# Altium footprint library GMRsensor.PcbLib: 2 footprints
Each footprint in its own frame and in the unit in brackets; x right, y up, seen from the top. Pads: shape width x height; smd on the part's side, far side on the other; paste and mask are expansions set on the pad; w line width, h text height; cw(c..) or ccw(c..) is an arc to the next point about the centre after c.
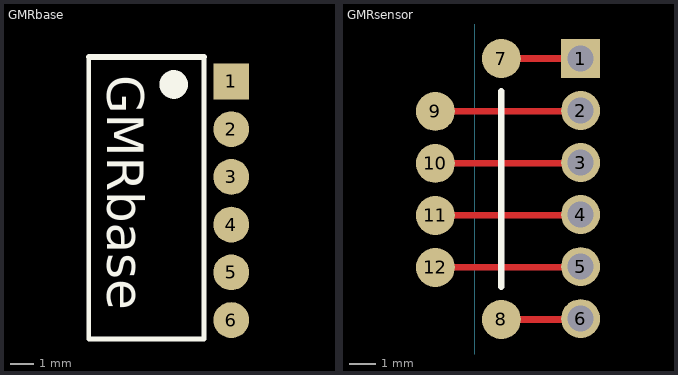
[diagram p0: the footprints below, top view; thin cyan lines are the x and y axes]

## GMRbase [mm]
pads (6):
  rect 1.5x1.5 all layers, no hole: 1(-1199.896,-1228.598)
  round 1.5 all layers, no hole: 2(-1199.896,-1230.598) 3(-1199.896,-1232.598) 4(-1199.896,-1234.598) 5(-1199.896,-1236.598) 6(-1199.896,-1238.598)
Top Overlay:
  circle w0.6: c-1202.309,-1228.725 r0.3
  lines w0.2: -1205.865,-1227.582 -1205.865,-1239.393 -1201.039,-1239.393 -1201.039,-1227.582
  lines w0.254: -1205.865,-1227.582 -1201.039,-1227.582
  text "GMRbase" at -1205.103,-1228.344 h1.52

## GMRsensor [mm]
pads (12):
  rect 1.5x1.5 hole 1: 1(4.064,11.43)
  round 1.5 hole 1: 2(4.064,9.43) 3(4.064,7.43) 4(4.064,5.43) 5(4.064,3.43) 6(4.064,1.43)
  round 1.5 smd: 7(1.016,11.43) 8(1.016,1.397) 9(-1.524,9.398) 10(-1.524,7.398) 11(-1.524,5.398) 12(-1.524,3.398)
Top Layer:
  lines w0.254: -1.524,3.398 4.032,3.398 ; -1.524,5.398 4.032,5.398 ; -1.524,7.398 4.032,7.398 ; -1.524,9.398 4.032,9.398 ; 1.016,1.397 4.031,1.397 ; 1.016,11.43 4.064,11.43
Top Overlay:
  lines w0.254: 1.016,2.667 1.016,10.16
3D body: height 5.08, standoff 0, extent -2.794,0 5.334,12.7